# EAGLE library part RM2* (library relay)
Power Relay SCHRACK 2 pole 16 A, DC- or AC-coil Source: http://www.schrack.com/.. 5829.pdf
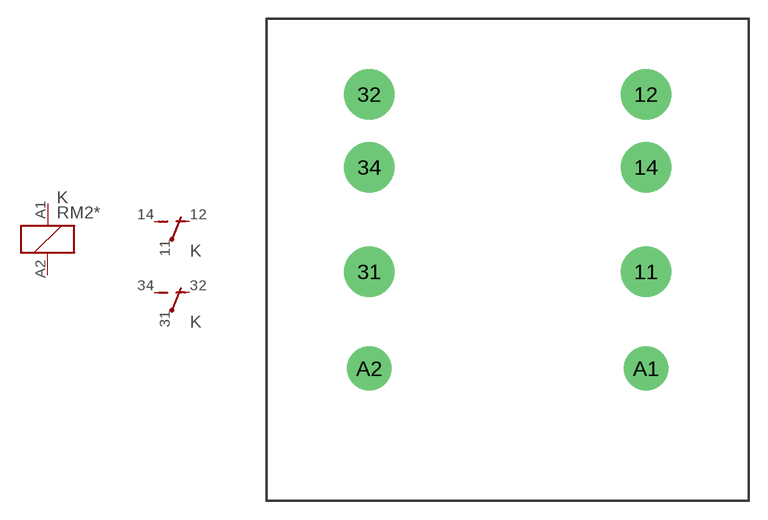
[diagram p122: symbol with the pads of RM-2; footprint RM-2]

Designator prefix K; gates 1=K 2=U 3=U

## RM2506 (OC_FARNELL: unknown; OC_NEWARK: unknown), RM2512 (OC_FARNELL: unknown; OC_NEWARK: unknown), RM2524 (OC_FARNELL: unknown; OC_NEWARK: unknown), RM2548 (OC_FARNELL: unknown; OC_NEWARK: unknown), RM2615 (OC_FARNELL: unknown; OC_NEWARK: unknown), RM2730 (OC_FARNELL: unknown; OC_NEWARK: unknown), RM2900 (OC_FARNELL: unknown; OC_NEWARK: unknown), RM2R06 (OC_FARNELL: unknown; OC_NEWARK: unknown), RM2R12 (OC_FARNELL: unknown; OC_NEWARK: unknown), RM2R24 (OC_FARNELL: unknown; OC_NEWARK: unknown), RM2R48 (OC_FARNELL: unknown; OC_NEWARK: unknown), RM2S15 (OC_FARNELL: unknown; OC_NEWARK: unknown), RM2T30 (OC_FARNELL: unknown; OC_NEWARK: unknown), RM2V00 (OC_FARNELL: unknown; OC_NEWARK: unknown)  [RM-2]
11  2:P  pas
12  2:O  pas
14  2:S  pas
31  3:P  pas
32  3:O  pas
34  3:S  pas
A1  1:1  pas
A2  1:2  pas

## Footprint RM-2 (pad centres in mm)
Power Relay SCHRACK 2 pole 16 A, DC- or AC-coil Source: http://www.schrack.com/.. 5829.pdf
drill 2 pad 4: 11 11,-0.95; 12 11,13.15; 14 11,7.35; 31 -11,-0.95; 32 -11,13.15; 34 -11,7.35
drill 2 pad 3.5: A1 11,-8.65; A2 -11,-8.65